# EAGLE library part LM56 (library texas)
Dual Output Low Power Thermostat
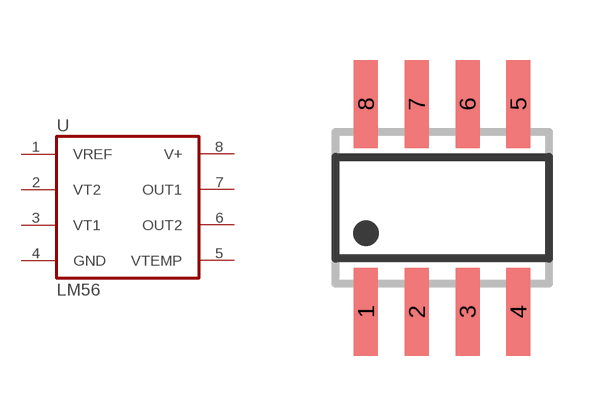
[diagram p68: symbol with the pads of SO08; footprint SO08]

Designator prefix U

## LM56D  [SO08]
1  VREF  out
2  VT2  in
3  VT1  in
4  GND  pwr
5  VTEMP  pas
6  OUT2  oc
7  OUT1  oc
8  V+  pwr

## Footprint SO08 (pad centres in mm)
SMALL OUTLINE INTEGRATED CIRCUIT body 3.9 mm/JEDEC MS-012AA
smd 0.6 x 2.2: 1 -1.905,-2.6; 2 -0.635,-2.6; 3 0.635,-2.6; 4 1.905,-2.6; 5 1.905,2.6; 6 0.635,2.6; 7 -0.635,2.6; 8 -1.905,2.6